# Altium schematic symbol library 1S_Charger.SchLib: 1 symbol
Pins are listed as number, name and electrical type; pins without a type are passive.

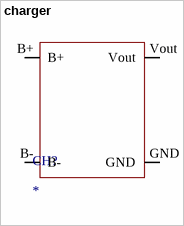
[diagram p0: symbol charger]

## charger
designator CH?
footprint 1S_Charger
pins: B+, B-, GND, Vout